# EAGLE library part 2450BM14A0002 (library JohansonTechnology)
2.45 GHz Impedance Matched Balun-Filter: Optimized for Nordic's Chipset nRF24L01, nRF24L01+, nRF24LE1, nRF24LU1, nRF24AP2, and nRF8001 Data sheet <http://www.johansontechnology.com/datasheets/baluns/Balun_Filter_Matched_2450BM14A0002_v2.pdf>
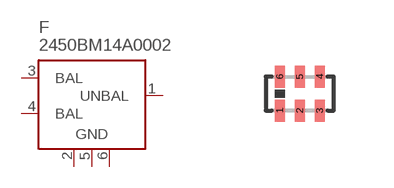
[diagram p0: symbol with the pads of 2450BM14A0002; footprint 2450BM14A0002]

Designator prefix F

## 2450BM14A0002 (OC_FARNELL: 2148533RL)  [2450BM14A0002]
1  UNBAL  pas
2  GND  pas
3  BAL  pas
4  BAL  pas
5  GND  pas
6  GND  pas

## Footprint 2450BM14A0002 (pad centres in mm)
2.45 GHz Impedance Matched Balun-Filter: Optimized for Nordic's Chipset nRF24L01, nRF24L01+, nRF24LE1, nRF24LU1, nRF24AP2, and nRF8001 Data sheet <http://www.johansontechnology.com/datasheets/baluns/Balun_Filter_Matched_2450BM14A0002_v2.pdf>
smd 0.25 x 0.55: 1 -0.5,-0.425; 2 0,-0.425; 3 0.5,-0.425; 4 0.5,0.425; 5 0,0.425; 6 -0.5,0.425